# Altium footprint library OptoDevice.PcbLib: 103 footprints (part 3 of 7)
Each footprint in its own frame and in the unit in brackets; x right, y up, seen from the top. Pads: shape width x height; smd on the part's side, far side on the other; paste and mask are expansions set on the pad; w line width, h text height; cw(c..) or ccw(c..) is an arc to the next point about the centre after c.
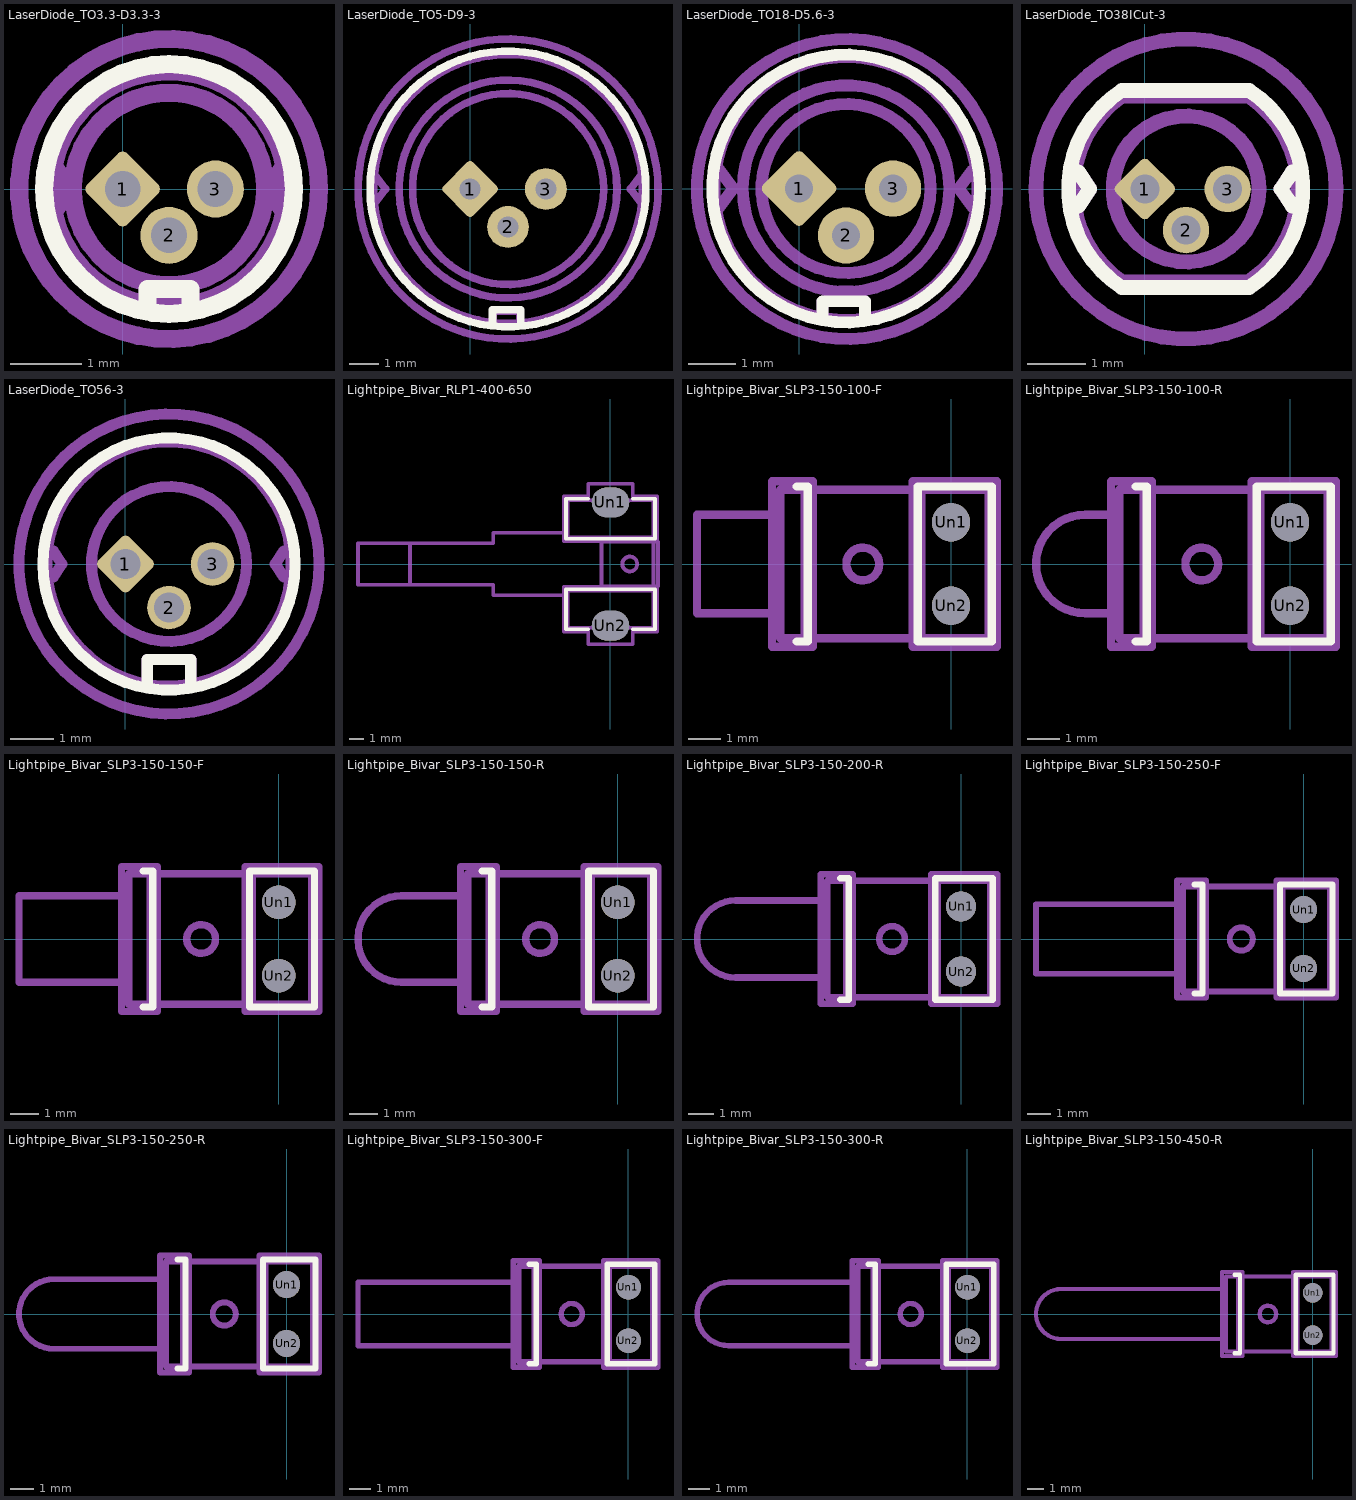
[diagram p2: the footprints below, top view; thin cyan lines are the x and y axes]

## LaserDiode_TO3.3-D3.3-3 [mm]
pads (3):
  rrect25% 0.8x0.8 hole 0.5 rot 45: 1(0,0)
  round 0.8 hole 0.5: 2(0.65,-0.65) 3(1.3,0)
F.SilkS:
  circle w0.254: c0.65,0 r1.75
  lines w0.254: 0.35,-1.7 0.35,-1.4 0.95,-1.4 0.95,-1.7
Top Assembly:
  circle w0.254: c0.65,0 r1.65
  circle w0.254: c0.65,0 r1.35
  lines w0.254: -0.95,-0.3 -0.75,0 -0.95,0.3 ; 0.35,-1.6 0.35,-1.4 0.95,-1.4 0.95,-1.6 ; 2.25,-0.3 2.05,0 2.25,0.3
  text "'.Designator'" at -3.397,1.66 h1
Top Courtyard:
  circle w0.254: c0.65,0 r2.103
Top Designator:
  text ".Designator" at -7.118,-0.194 h1.52

## LaserDiode_TO5-D9-3 [mm]
pads (3):
  rrect18% 1.4x1.4 hole 0.7 rot 45: 1(0,0)
  round 1.4 hole 0.7: 2(1.27,-1.27) 3(2.54,0)
F.SilkS:
  circle w0.254: c1.27,0 r4.62
  lines w0.254: 0.75,-4.55 0.75,-4.05 1.7,-4.05 1.7,-4.55
Top Assembly:
  circle w0.254: c1.27,0 r3.65
  circle w0.254: c1.27,0 r3.2
  circle w0.254: c1.27,0 r4.5
  lines w0.254: -3.13,-0.4 -2.83,0 -3.13,0.4 ; 0.77,-4.4 0.77,-4.1 1.67,-4.1 1.67,-4.4 ; 5.67,-0.4 5.37,0 5.67,0.4
  text "'.Designator'" at -2.777,-2.84 h1
Top Courtyard:
  circle w0.254: c1.27,0 r5.024
Top Designator:
  text ".Designator" at -6.348,-0.508 h1.52

## LaserDiode_TO18-D5.6-3 [mm]
pads (3):
  rrect21% 1.2x1.2 hole 0.6 rot 45: 1(0,0)
  round 1.2 hole 0.6: 2(1,-1) 3(2,0)
F.SilkS:
  circle w0.254: c1,0 r2.85
  lines w0.254: 0.5,-2.8 0.5,-2.4 1.4,-2.4 1.4,-2.8
Top Assembly:
  circle w0.254: c1,0 r2.2
  circle w0.254: c1,0 r1.8
  circle w0.254: c1,0 r2.8
  lines w0.254: -1.7,-0.4 -1.4,0 -1.7,0.4 ; 0.5,-2.7 0.5,-2.4 1.4,-2.4 1.4,-2.7 ; 3.7,-0.4 3.4,0 3.7,0.4
  text "'.Designator'" at -3.147,2.76 h1
Top Courtyard:
  circle w0.254: c1.02,-0.01 r3.194
Top Designator:
  text ".Designator" at -6.868,-0.195 h1.52

## LaserDiode_TO38ICut-3 [mm]
pads (3):
  rrect25% 0.8x0.8 hole 0.5 rot 45: 1(0,0)
  round 0.8 hole 0.5: 2(0.71,-0.71) 3(1.43,0)
F.SilkS:
  lines w0.254: -1.15,-0.3 -0.95,0 -1.15,0.3 ; 1.79,-1.706 ccw(c0.71,0) 1.8,1.7 -0.4,1.7 ccw(c0.71,0) -0.4,-1.7 1.8,-1.7 ; 2.55,-0.3 2.35,0 2.55,0.3
Top Assembly:
  circle w0.254: c0.71,0 r1.26
  lines w0.254: -1.15,-0.3 -0.95,0 -1.15,0.3 ; -0.414,1.59 ccw(c0.71,0) -0.4,-1.6 1.8,-1.6 ; -0.4,1.6 1.8,1.6 cw(c0.71,0) 1.841,-1.571 ; 2.55,-0.3 2.35,0 2.55,0.3
  text "'.Designator'" at -3.347,1.76 h1
Top Courtyard:
  circle w0.254: c0.71,0 r2.591
Top Designator:
  text ".Designator" at -7.068,-0.388 h1.52

## LaserDiode_TO56-3 [mm]
pads (3):
  rrect25% 1x1 hole 0.7 rot 45: 1(0,0)
  round 1 hole 0.7: 2(1,-1) 3(2,0)
F.SilkS:
  circle w0.254: c1,0 r2.9
  lines w0.254: 0.5,-2.85 0.5,-2.2 1.5,-2.2 1.5,-2.85
Top Assembly:
  circle w0.254: c1,0 r2.81
  circle w0.254: c1,0 r1.78
  lines w0.254: -1.66,-0.3 -1.46,0 -1.66,0.3 ; 0.5,-2.7 0.5,-2.2 1.5,-2.2 1.5,-2.7 ; 3.64,-0.3 3.44,0 3.64,0.3
  text "'.Designator'" at -3.057,2.96 h1
Top Courtyard:
  circle w0.254: c1,0 r3.448
Top Designator:
  text ".Designator" at -6.778,-0.217 h1.52

## Lightpipe_Bivar_RLP1-400-650 [mm]
pads (2):
  rrect100% 2.5x2 hole 2 slot 2.5 at 0 deg: Un1(0,4.15) Un2(0,-4.15)
F.SilkS:
  lines w0.254: -1.5,-4.4 -3,-4.4 -3,-2.2 -3,-1.7 3,-1.7 3,-4.4 1.5,-4.4 ; -1.5,4.4 -3,4.4 -3,2.2 -3,1.7 3,1.7 3,4.4 1.5,4.4
Top Assembly:
  lines w0.254: -13.5,-1.4 -13.5,1.4 ; -2.9,-2.1 -7.9,-2.1 -7.9,-1.4 -17,-1.4 -17,1.4 -7.9,1.4 -7.9,2.1 -2.9,2.1 ; 2.9,-1.8 -2.9,-1.8 -2.9,-4.3 2.9,-4.3 2.9,-1.8 ; 2.9,-1.8 2.9,1.8 ; 2.9,1.8 2.9,4.3 -2.9,4.3 -2.9,1.8 2.9,1.8
  text "'.Designator'" at -5.797,-0.84 h1
Top Courtyard:
  lines w0.254: -3.15,-4.55 -1.5,-4.55 -1.5,-5.4 1.5,-5.4 1.5,-4.55 3.15,-4.55 3.15,-1.55 -3.15,-1.55 -3.15,-2.35 -3.15,-4.55 ; -3.15,1.55 3.15,1.55 3.15,4.55 1.5,4.55 1.5,5.4 -1.5,5.4 -1.5,4.55 -3.15,4.55 -3.15,2.35 -3.15,1.55
Top Designator:
  text ".Designator" at -14.518,-0.508 h1.52
Dwgs.User:
  circle w0.254: c1.3,0 r0.5
  lines w0.254: -0.6,-1.5 3.2,-1.5 3.2,1.5 -0.6,1.5 -0.6,-1.5

## Lightpipe_Bivar_SLP3-150-100-F [mil]
pads (2):
  round 46 hole 46: Un1(0,50) Un2(0,-50)
F.SilkS:
  lines w10: -185.31,-92.94 -172.06,-92.94 -172.06,92.94 -185.31,92.94 ; -39.94,-92.94 48.94,-92.94 48.94,92.94 -39.94,92.94 -39.94,-92.94
Top Assembly:
  lines w10: -176,-89 -176,89 ; -176,-89 -205,-89 -205,89 -176,89 ; -176,-89 -36,-89 ; -176,89 -36,89 ; -36,-89 45,-89 45,89 -36,89 ; -36,-89 -36,89 ; -305,-59.06 -305,59.06 -205,59.06 -205,-59.06 -305,-59.06
  text "'.Designator'" at 33.08,-159.32 h39.37
Top Courtyard:
  lines w10: -214.96,-99.21 -166.14,-99.21 -166.14,99.21 -214.96,99.21 -214.96,-99.21 ; -46.06,-99.21 55.12,-99.21 55.12,99.21 -46.06,99.21 -46.06,-99.21
Top Designator:
  text ".Designator" at -424.84,-25.9 h60
Dwgs.User:
  circle w10: c-106,0 r19.68

## Lightpipe_Bivar_SLP3-150-100-R [mil]
pads (2):
  round 46 hole 46: Un1(0,50) Un2(0,-50)
F.SilkS:
  lines w10: -185.31,-92.94 -172.06,-92.94 -172.06,92.94 -185.31,92.94 ; -39.94,-92.94 48.94,-92.94 48.94,92.94 -39.94,92.94 -39.94,-92.94
Top Assembly:
  lines w10: -205,-59.06 -245.94,-59.06 cw(c-245.94,0) -245.94,59.06 -205,59.06 ; -176,-89 -176,89 ; -176,-89 -205,-89 -205,89 -176,89 ; -176,-89 -36,-89 ; -176,89 -36,89 ; -36,-89 45,-89 45,89 -36,89 ; -36,-89 -36,89
  text "'.Designator'" at 33.08,-159.32 h39.37
Top Courtyard:
  lines w10: -214.96,-99.21 -166.14,-99.21 -166.14,99.21 -214.96,99.21 -214.96,-99.21 ; -46.06,-99.21 55.12,-99.21 55.12,99.21 -46.06,99.21 -46.06,-99.21
Top Designator:
  text ".Designator" at -424.84,-25.9 h60
Dwgs.User:
  circle w10: c-106,0 r19.68

## Lightpipe_Bivar_SLP3-150-150-F [mil]
pads (2):
  round 46 hole 46: Un1(0,50) Un2(0,-50)
F.SilkS:
  lines w10: -185.31,-92.94 -172.06,-92.94 -172.06,92.94 -185.31,92.94 ; -39.94,-92.94 48.94,-92.94 48.94,92.94 -39.94,92.94 -39.94,-92.94
Top Assembly:
  lines w10: -176,-89 -176,89 ; -176,-89 -205,-89 -205,89 -176,89 ; -176,-89 -36,-89 ; -176,89 -36,89 ; -36,-89 45,-89 45,89 -36,89 ; -36,-89 -36,89 ; -355,-59.06 -355,59.06 -205,59.06 -205,-59.06 -355,-59.06
  text "'.Designator'" at 33.08,-159.32 h39.37
Top Courtyard:
  lines w10: -214.96,-99.21 -166.14,-99.21 -166.14,99.21 -214.96,99.21 -214.96,-99.21 ; -46.06,-99.21 55.12,-99.21 55.12,99.21 -46.06,99.21 -46.06,-99.21
Top Designator:
  text ".Designator" at -449.84,-25.9 h60
Dwgs.User:
  circle w10: c-106,0 r19.68

## Lightpipe_Bivar_SLP3-150-150-R [mil]
pads (2):
  round 46 hole 46: Un1(0,50) Un2(0,-50)
F.SilkS:
  lines w10: -185.31,-92.94 -172.06,-92.94 -172.06,92.94 -185.31,92.94 ; -39.94,-92.94 48.94,-92.94 48.94,92.94 -39.94,92.94 -39.94,-92.94
Top Assembly:
  lines w10: -205,-59.06 -295.94,-59.06 cw(c-295.94,0) -295.94,59.06 -205,59.06 ; -176,-89 -176,89 ; -176,-89 -205,-89 -205,89 -176,89 ; -176,-89 -36,-89 ; -176,89 -36,89 ; -36,-89 45,-89 45,89 -36,89 ; -36,-89 -36,89
  text "'.Designator'" at 33.08,-159.32 h39.37
Top Courtyard:
  lines w10: -214.96,-99.21 -166.14,-99.21 -166.14,99.21 -214.96,99.21 -214.96,-99.21 ; -46.06,-99.21 55.12,-99.21 55.12,99.21 -46.06,99.21 -46.06,-99.21
Top Designator:
  text ".Designator" at -449.84,-25.9 h60
Dwgs.User:
  circle w10: c-106,0 r19.68

## Lightpipe_Bivar_SLP3-150-200-R [mil]
pads (2):
  round 46 hole 46: Un1(0,50) Un2(0,-50)
F.SilkS:
  lines w10: -185.31,-92.94 -172.06,-92.94 -172.06,92.94 -185.31,92.94 ; -39.94,-92.94 48.94,-92.94 48.94,92.94 -39.94,92.94 -39.94,-92.94
Top Assembly:
  lines w10: -205,-59.06 -345.94,-59.06 cw(c-345.94,0) -345.94,59.06 -205,59.06 ; -176,-89 -176,89 ; -176,-89 -205,-89 -205,89 -176,89 ; -176,-89 -36,-89 ; -176,89 -36,89 ; -36,-89 45,-89 45,89 -36,89 ; -36,-89 -36,89
  text "'.Designator'" at 33.08,-159.32 h39.37
Top Courtyard:
  lines w10: -214.96,-99.21 -166.14,-99.21 -166.14,99.21 -214.96,99.21 -214.96,-99.21 ; -46.06,-99.21 55.12,-99.21 55.12,99.21 -46.06,99.21 -46.06,-99.21
Top Designator:
  text ".Designator" at -474.84,-25.9 h60
Dwgs.User:
  circle w10: c-106,0 r19.68

## Lightpipe_Bivar_SLP3-150-250-F [mil]
pads (2):
  round 46 hole 46: Un1(0,50) Un2(0,-50)
F.SilkS:
  lines w10: -185.31,-92.94 -172.06,-92.94 -172.06,92.94 -185.31,92.94 ; -39.94,-92.94 48.94,-92.94 48.94,92.94 -39.94,92.94 -39.94,-92.94
Top Assembly:
  lines w10: -176,-89 -176,89 ; -176,-89 -205,-89 -205,89 -176,89 ; -176,-89 -36,-89 ; -176,89 -36,89 ; -36,-89 45,-89 45,89 -36,89 ; -36,-89 -36,89 ; -455,-59.06 -455,59.06 -205,59.06 -205,-59.06 -455,-59.06
  text "'.Designator'" at 33.08,-159.32 h39.37
Top Courtyard:
  lines w10: -214.96,-99.21 -166.14,-99.21 -166.14,99.21 -214.96,99.21 -214.96,-99.21 ; -46.06,-99.21 55.12,-99.21 55.12,99.21 -46.06,99.21 -46.06,-99.21
Top Designator:
  text ".Designator" at -499.84,-25.9 h60
Dwgs.User:
  circle w10: c-106,0 r19.68

## Lightpipe_Bivar_SLP3-150-250-R [mil]
pads (2):
  round 46 hole 46: Un1(0,50) Un2(0,-50)
F.SilkS:
  lines w10: -185.31,-92.94 -172.06,-92.94 -172.06,92.94 -185.31,92.94 ; -39.94,-92.94 48.94,-92.94 48.94,92.94 -39.94,92.94 -39.94,-92.94
Top Assembly:
  lines w10: -205,-59.06 -395.94,-59.06 cw(c-395.94,0) -395.94,59.06 -205,59.06 ; -176,-89 -176,89 ; -176,-89 -205,-89 -205,89 -176,89 ; -176,-89 -36,-89 ; -176,89 -36,89 ; -36,-89 45,-89 45,89 -36,89 ; -36,-89 -36,89
  text "'.Designator'" at 33.08,-159.32 h39.37
Top Courtyard:
  lines w10: -214.96,-99.21 -166.14,-99.21 -166.14,99.21 -214.96,99.21 -214.96,-99.21 ; -46.06,-99.21 55.12,-99.21 55.12,99.21 -46.06,99.21 -46.06,-99.21
Top Designator:
  text ".Designator" at -499.84,-25.9 h60
Dwgs.User:
  circle w10: c-106,0 r19.68

## Lightpipe_Bivar_SLP3-150-300-F [mil]
pads (2):
  round 46 hole 46: Un1(0,50) Un2(0,-50)
F.SilkS:
  lines w10: -185.31,-92.94 -172.06,-92.94 -172.06,92.94 -185.31,92.94 ; -39.94,-92.94 48.94,-92.94 48.94,92.94 -39.94,92.94 -39.94,-92.94
Top Assembly:
  lines w10: -205,-59.06 -505,-59.06 -505,59.06 -205,59.06 ; -176,-89 -176,89 ; -176,-89 -205,-89 -205,89 -176,89 ; -176,-89 -36,-89 ; -176,89 -36,89 ; -36,-89 45,-89 45,89 -36,89 ; -36,-89 -36,89
  text "'.Designator'" at 33.08,-159.32 h39.37
Top Courtyard:
  lines w10: -214.96,-99.21 -166.14,-99.21 -166.14,99.21 -214.96,99.21 -214.96,-99.21 ; -46.06,-99.21 55.12,-99.21 55.12,99.21 -46.06,99.21 -46.06,-99.21
Top Designator:
  text ".Designator" at -524.84,-25.9 h60
Dwgs.User:
  circle w10: c-106,0 r19.68

## Lightpipe_Bivar_SLP3-150-300-R [mil]
pads (2):
  round 46 hole 46: Un1(0,50) Un2(0,-50)
F.SilkS:
  lines w10: -185.31,-92.94 -172.06,-92.94 -172.06,92.94 -185.31,92.94 ; -39.94,-92.94 48.94,-92.94 48.94,92.94 -39.94,92.94 -39.94,-92.94
Top Assembly:
  lines w10: -205,-59.06 -445.94,-59.06 cw(c-445.94,0) -445.94,59.06 -205,59.06 ; -176,-89 -176,89 ; -176,-89 -205,-89 -205,89 -176,89 ; -176,-89 -36,-89 ; -176,89 -36,89 ; -36,-89 45,-89 45,89 -36,89 ; -36,-89 -36,89
  text "'.Designator'" at 33.08,-159.32 h39.37
Top Courtyard:
  lines w10: -214.96,-99.21 -166.14,-99.21 -166.14,99.21 -214.96,99.21 -214.96,-99.21 ; -46.06,-99.21 55.12,-99.21 55.12,99.21 -46.06,99.21 -46.06,-99.21
Top Designator:
  text ".Designator" at -524.84,-25.9 h60
Dwgs.User:
  circle w10: c-106,0 r19.68

## Lightpipe_Bivar_SLP3-150-450-R [mil]
pads (2):
  round 46 hole 46: Un1(0,50) Un2(0,-50)
F.SilkS:
  lines w10: -185.31,-92.94 -172.06,-92.94 -172.06,92.94 -185.31,92.94 ; -39.94,-92.94 48.94,-92.94 48.94,92.94 -39.94,92.94 -39.94,-92.94
Top Assembly:
  lines w10: -205,-59.06 -595.94,-59.06 cw(c-595.94,0) -595.94,59.06 -205,59.06 ; -176,-89 -176,89 ; -176,-89 -205,-89 -205,89 -176,89 ; -176,-89 -36,-89 ; -176,89 -36,89 ; -36,-89 45,-89 45,89 -36,89 ; -36,-89 -36,89
  text "'.Designator'" at 33.08,-159.32 h39.37
Top Courtyard:
  lines w10: -214.96,-99.21 -166.14,-99.21 -166.14,99.21 -214.96,99.21 -214.96,-99.21 ; -46.06,-99.21 55.12,-99.21 55.12,99.21 -46.06,99.21 -46.06,-99.21
Top Designator:
  text ".Designator" at -599.84,-25.9 h60
Dwgs.User:
  circle w10: c-106,0 r19.68